# EAGLE library part MAX14432 (library EIT_Recorder)
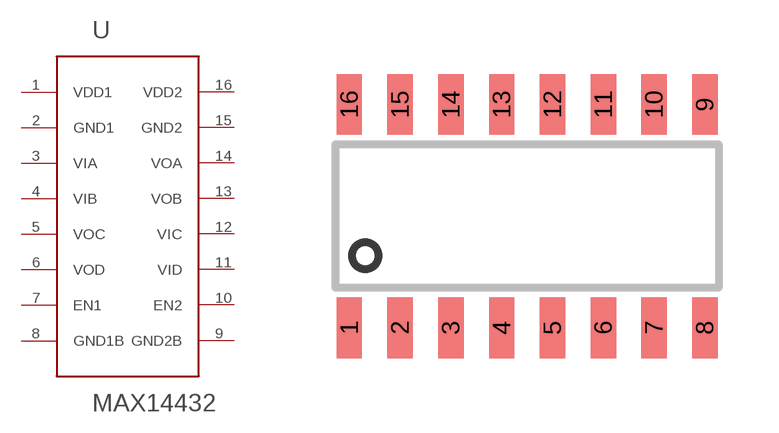
[diagram p8: symbol with the pads of SOIC16_CUSTOM; footprint SOIC16_CUSTOM]

Designator prefix -

## MAX14432  [SOIC16_CUSTOM]
1  VDD1  pwr
2  GND1  pwr
3  VIA  in
4  VIB  in
5  VOC  out
6  VOD  out
7  EN1  in
8  GND1B  pwr
9  GND2B  pwr
10  EN2
11  VID  in
12  VIC  in
13  VOB  out
14  VOA  out
15  GND2  pwr
16  VDD2  pwr

## Footprint SOIC16_CUSTOM (pad centres in mm)
SMALL OUTLINE INTEGRATED CIRCUIT 16-Pin (150-Mil) SOIC Source: http://www.cypress.com .. 38-12025_0P_V.pdf
smd 0.635 x 1.524: 1 -4.445,-2.795; 2 -3.175,-2.795; 3 -1.905,-2.795; 4 -0.635,-2.795; 5 0.635,-2.795; 6 1.905,-2.795; 7 3.175,-2.795; 8 4.445,-2.795; 9 4.445,2.795; 10 3.175,2.795; 11 1.905,2.795; 12 0.635,2.795; 13 -0.635,2.795; 14 -1.905,2.795; 15 -3.175,2.795; 16 -4.445,2.795